# EAGLE library part LTC3218 (library PowerProducts)
LT-Spice library generated with : ltspice.ulp from: D:/Program Files (x86)/LTC/LTspiceIV/lib/sym/PowerProducts/LTC3221-3.3*.asy at 07.10.2012 17:53:18
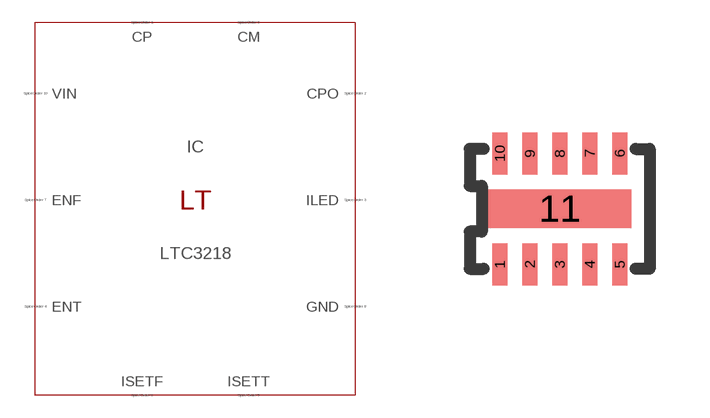
[diagram p143: symbol with the pads of DFN10(DDB); footprint DFN10(DDB)]

Designator prefix IC

## LTC3218 (SPICEMODEL: LTC3218.sub; SPICEPREFIX: X; VALUE2: LTC3218)  [DFN10(DDB)]
1  CP  pas
2  CPO  pas
3  ILED  pas
4  ENT  pas
5  ISETT  pas
6  ISETF  pas
7  ENF  pas
8  GND  pas
9  CM  pas
10  VIN  pas
11  GND  pas

## Footprint DFN10(DDB) (pad centres in mm)
Package generated from: DFN10(DDB).asc (!PADS-POWERPCB-V5.0-BASIC! DESIGN DATABASE ASCII FILE 1.0) with :import-pads-powerpcb-v5.ulp Version 1.0.1 at 04.10.2012 14:11:16
smd 0.375 x 1.05: 1 -1.5,-1.387; 2 -0.75,-1.387; 3 0,-1.387; 4 0.75,-1.387; 5 1.5,-1.387; 6 1.5,1.387; 7 0.75,1.387; 8 0,1.387; 9 -0.75,1.387; 10 -1.5,1.387
smd 3.585 x 0.96: 11 0,0